# EAGLE library part CXA1145 (library Sony_Video_Encoder)
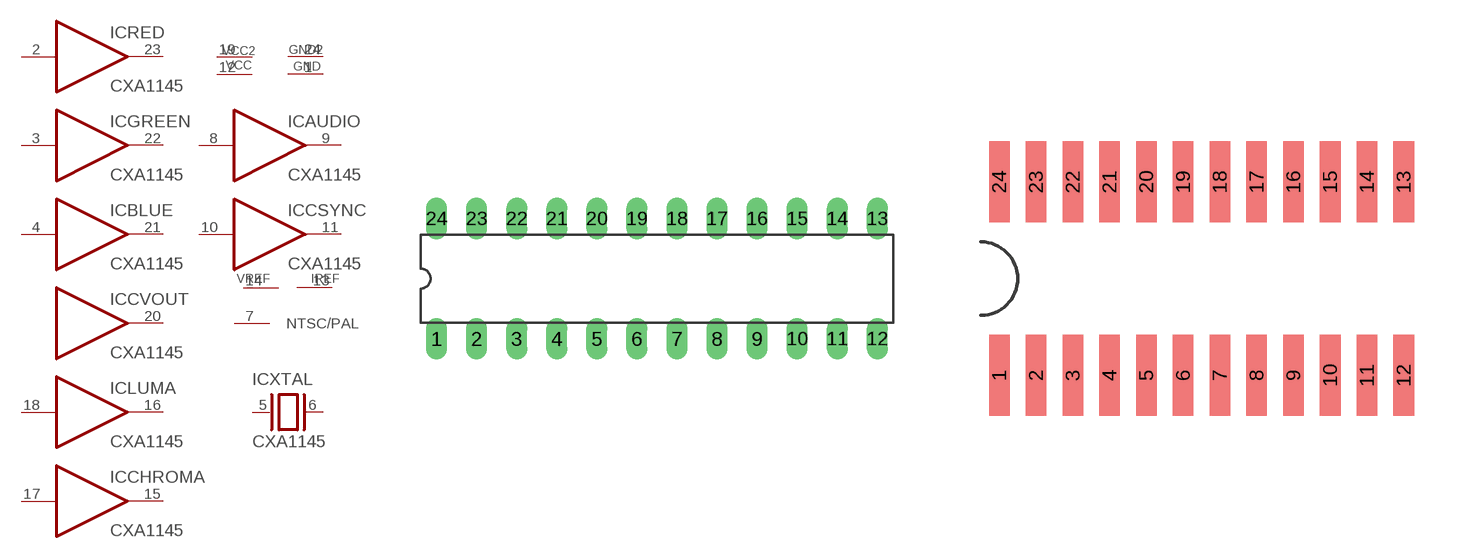
[diagram p0: symbol with the pads of DIL24; footprints DIL24, SOP24N]

Designator prefix IC; gates RED=BUFFER GREEN=BUFFER BLUE=BUFFER CVOUT=BUFFERNOIN XTAL=XTAL G$2=PWRN_VCC2 LUMA=BUFFER CHROMA=BUFFER AUDIO=BUFFER CSYNC=BUFFER G$1=VREF G$3=NTSC/PAL

## CXA1145P  [DIL24]
1  G$2:GND  pwr
2  RED:I
3  GREEN:I
4  BLUE:I
5  XTAL:1  pas
6  XTAL:2  pas
7  G$3:NTSC/PAL
8  AUDIO:I
9  AUDIO:O  out
10  CSYNC:I
11  CSYNC:O  out
12  G$2:VCC  pwr
13  G$1:IREF
14  G$1:VREF
15  CHROMA:O  out
16  LUMA:O  out
17  CHROMA:I
18  LUMA:I
19  G$2:VCC2  pwr
20  CVOUT:O  out
21  BLUE:O  out
22  GREEN:O  out
23  RED:O  out
24  G$2:GND2  pwr

## CXA1145M  [SOP24N]
Pads as for DIL24

## Footprint DIL24 (pad centres in mm)
Dual In Line Package 0.3 inch
drill 0.813 long: 1 -13.97,-3.81; 2 -11.43,-3.81; 3 -8.89,-3.81; 4 -6.35,-3.81; 5 -3.81,-3.81; 6 -1.27,-3.81; 7 1.27,-3.81; 8 3.81,-3.81; 9 6.35,-3.81; 10 8.89,-3.81; 11 11.43,-3.81; 12 13.97,-3.81; 13 13.97,3.81; 14 11.43,3.81; 15 8.89,3.81; 16 6.35,3.81; 17 3.81,3.81; 18 1.27,3.81; 19 -1.27,3.81; 20 -3.81,3.81; 21 -6.35,3.81; 22 -8.89,3.81; 23 -11.43,3.81; 24 -13.97,3.81

## Footprint SOP24N (pad centres in mm)
smd 0.711 x 2.794: 1 -5.715,-3.34; 2 -4.445,-3.34; 3 -3.175,-3.34; 4 -1.905,-3.34; 5 -0.635,-3.34; 6 0.635,-3.34; 7 1.905,-3.34; 8 3.175,-3.34; 9 4.445,-3.34; 10 5.715,-3.34; 11 6.985,-3.34; 12 8.255,-3.34; 13 8.255,3.34; 14 6.985,3.34; 15 5.715,3.34; 16 4.445,3.34; 17 3.175,3.34; 18 1.905,3.34; 19 0.635,3.34; 20 -0.635,3.34; 21 -1.905,3.34; 22 -3.175,3.34; 23 -4.445,3.34; 24 -5.715,3.34